# Altium footprint library DIP-SW  0607.PCBlib: 56 footprints (part 2 of 4)
Each footprint in its own frame and in the unit in brackets; x right, y up, seen from the top. Pads: shape width x height; smd on the part's side, far side on the other; paste and mask are expansions set on the pad; w line width, h text height; cw(c..) or ccw(c..) is an arc to the next point about the centre after c.
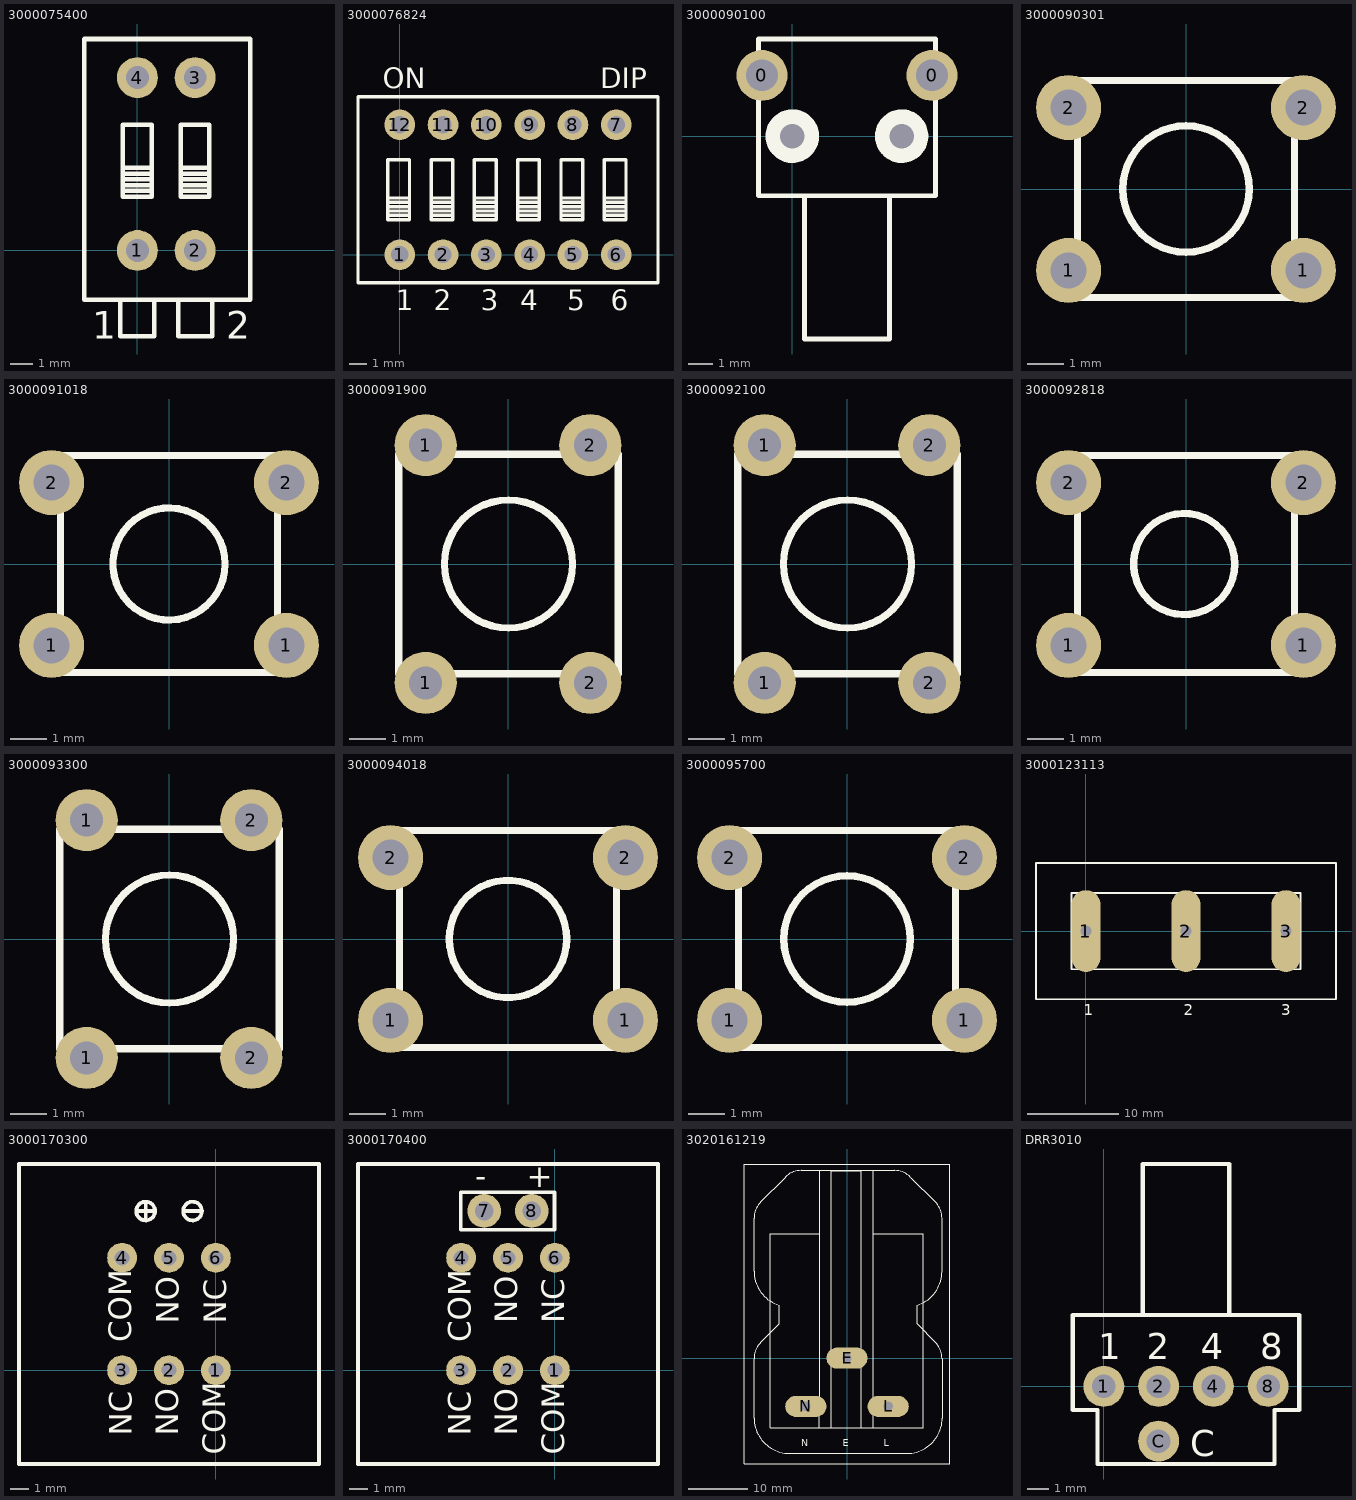
[diagram p1: the footprints below, top view; thin cyan lines are the x and y axes]

## 3000075400 [mm]
height 10.3
pads (4):
  round 1.8 hole 1: 1(0,0) 2(2.54,0) 3(2.54,7.62) 4(0,7.62)
Top Overlay:
  lines w0.2: -2.34,-2.18 4.975,-2.18 ; -2.34,-2.13 -2.34,9.27 ; -2.34,9.32 4.975,9.32 ; -0.75,-2.18 -0.75,-3.78 0.75,-3.78 0.75,-2.18 ; -0.64,3.64 0.63,3.64 ; -0.513,2.624 0.503,2.624 ; -0.513,2.878 0.503,2.878 ; -0.513,3.132 0.503,3.132 ; -0.513,3.386 0.503,3.386 ; 1.79,-2.18 1.79,-3.78 3.29,-3.78 3.29,-2.18 ; 1.9,3.64 3.17,3.64 ; 2.027,2.624 3.043,2.624 ; 2.027,2.878 3.043,2.878 ; 2.027,3.132 3.043,3.132 ; 2.027,3.386 3.043,3.386 ; 4.98,-2.18 4.98,9.32 ; -0.64,2.37 -0.64,5.545 0.63,5.545 0.63,2.37 -0.64,2.37 ; 1.9,2.37 1.9,5.545 3.17,5.545 3.17,2.37 1.9,2.37
  text "2" at 3.92,-3.9 h1.2
  text "1" at -2,-3.9 h1.2
Bottom Overlay:
  lines w0.5: 1.27,-0.8 1.27,0.8 ; 1.27,6.82 1.27,8.42

## 3000076824 [mm] "DS-06-G-01-BL"
height 7.1
pads (12):
  round 1.8 hole 1: 1(0,0) 2(2.54,0) 3(5.08,0) 4(7.62,0) 5(10.16,0) 6(12.7,0) 7(12.7,7.62) 8(10.16,7.62) 9(7.62,7.62) 10(5.08,7.62) 11(2.54,7.62) 12(0,7.62)
Top Overlay:
  lines w0.2: -0.7,2.05 0.57,2.05 ; -0.7,2.06 -0.7,5.56 0.57,5.56 0.57,2.06 ; -0.7,3.32 0.57,3.32 ; -0.573,2.304 0.443,2.304 ; -0.573,2.558 0.443,2.558 ; -0.573,2.812 0.443,2.812 ; -0.573,3.066 0.443,3.066 ; 1.84,2.05 3.11,2.05 ; 1.84,2.06 1.84,5.56 3.11,5.56 3.11,2.06 ; 1.84,3.32 3.11,3.32 ; 1.967,2.304 2.983,2.304 ; 1.967,2.558 2.983,2.558 ; 1.967,2.812 2.983,2.812 ; 1.967,3.066 2.983,3.066 ; 4.38,2.05 5.65,2.05 ; 4.38,2.06 4.38,5.56 5.65,5.56 5.65,2.06 ; 4.38,3.32 5.65,3.32 ; 4.507,2.304 5.523,2.304 ; 4.507,2.558 5.523,2.558 ; 4.507,2.812 5.523,2.812 ; 4.507,3.066 5.523,3.066 ; 6.92,2.05 8.19,2.05 ; 6.92,2.06 6.92,5.56 8.19,5.56 8.19,2.06 ; 6.92,3.32 8.19,3.32 ; 7.047,2.304 8.063,2.304 ; 7.047,2.558 8.063,2.558 ; 7.047,2.812 8.063,2.812 ; 7.047,3.066 8.063,3.066 ; 9.46,2.05 10.73,2.05 ; 9.46,2.06 9.46,5.56 10.73,5.56 10.73,2.06 ; 9.46,3.32 10.73,3.32 ; 9.587,2.304 10.603,2.304 ; 9.587,2.558 10.603,2.558 ; 9.587,2.812 10.603,2.812 ; 9.587,3.066 10.603,3.066 ; 12,2.05 13.27,2.05 ; 12,2.06 12,5.56 13.27,5.56 13.27,2.06 ; 12,3.32 13.27,3.32 ; 12.127,2.304 13.143,2.304 ; 12.127,2.558 13.143,2.558 ; 12.127,2.812 13.143,2.812 ; 12.127,3.066 13.143,3.066 ; -2.45,-1.64 -2.45,9.26 15.15,9.26 15.15,-1.64 -2.45,-1.64
  text "DIP" at 11.75,9.75 h1.2
  text "6" at 12.37,-3.25 h1.2
  text "2" at 2,-3.25 h1.2
  text "3" at 4.75,-3.25 h1.2
  text "1" at -0.25,-3.25 h1.2
  text "4" at 7.08,-3.25 h1.2
  text "5" at 9.83,-3.25 h1.2
  text "ON" at -1,9.75 h1.2
Bottom Overlay:
  lines w0.5: 1.27,-0.8 1.27,0.8 ; 1.27,6.82 1.27,8.42 ; 3.81,-0.8 3.81,0.8 ; 3.81,6.82 3.81,8.42 ; 6.35,-0.8 6.35,0.8 ; 6.35,6.82 6.35,8.42 ; 8.89,-0.8 8.89,0.8 ; 8.89,6.82 8.89,8.42 ; 11.43,-0.8 11.43,0.8 ; 11.43,6.82 11.43,8.42

## 3000090100 [mm]
height 8.1
pads (4):
  round 2.1 hole 1.3: 0(-1.25,2.5) 0(5.75,2.5)
  round 0 / inner round 1.8 / far side round 1.8 hole 1: 1(0,0) 2(4.5,0)
Top Layer:
  circle w1: c4.5,0 r0.5
  circle w1: c0,0 r0.5
Top Overlay:
  circle w1.2: c4.5,0 r0.5
  circle w1.2: c0,0 r0.5
  lines w0.2: 0.5,-2.45 0.5,-8.35 4,-8.35 4,-2.45 ; -1.4,-2.45 -1.4,4 5.9,4 5.9,-2.45 -1.4,-2.45

## 3000090301 [mm]
height 14.8
pads (4):
  round 1.8 hole 1: 1(-3.25,-2.25) 1(3.25,-2.25) 2(-3.25,2.25) 2(3.25,2.25)
Top Overlay:
  circle w0.2: c0,0 r1.75
  lines w0.2: -3,-3 -3,3 3,3 3,-3 -3,-3

## 3000091018 [mm]
height 11.3
pads (4):
  round 1.8 hole 1: 1(-3.25,-2.25) 1(3.25,-2.25) 2(-3.25,2.25) 2(3.25,2.25)
Top Overlay:
  circle w0.2: c0,0 r1.55
  lines w0.2: -3,-3 3,-3 3,3 -3,3 -3,-3

## 3000091900 [mm] "BLACK"
height 11.3
pads (4):
  round 1.7 hole 0.9: 1(-2.25,-3.25) 1(-2.25,3.25) 2(2.25,-3.25) 2(2.25,3.25)
Top Overlay:
  circle w0.2: c0.013,0 r1.75
  lines w0.2: -2.987,-3 3.013,-3 3.013,3 -2.987,3 -2.987,-3

## 3000092100 [mm] "BROWN"
height 6.8
pads (4):
  round 1.7 hole 0.9: 1(-2.25,-3.25) 1(-2.25,3.25) 2(2.25,-3.25) 2(2.25,3.25)
Top Overlay:
  circle w0.2: c0.013,0 r1.75
  lines w0.2: -2.987,-3 3.013,-3 3.013,3 -2.987,3 -2.987,-3

## 3000092818 [mm]
height 18.8
pads (4):
  round 1.8 hole 1: 1(-3.25,-2.25) 1(3.25,-2.25) 2(-3.25,2.25) 2(3.25,2.25)
Top Overlay:
  circle w0.2: c-0.05,0 r1.4
  lines w0.2: -3,-3 3,-3 3,3 -3,3 -3,-3

## 3000093300 [mm] "BLACK"
height 9.1
pads (4):
  round 1.7 hole 0.9: 1(-2.25,-3.25) 1(-2.25,3.25) 2(2.25,-3.25) 2(2.25,3.25)
Top Overlay:
  circle w0.2: c0.013,0 r1.75
  lines w0.2: -2.987,-3 3.013,-3 3.013,3 -2.987,3 -2.987,-3

## 3000094018 [mm]
height 9.1
pads (4):
  round 1.8 hole 1: 1(-3.25,-2.25) 1(3.25,-2.25) 2(-3.25,2.25) 2(3.25,2.25)
Top Overlay:
  circle w0.2: c0,0 r1.625
  lines w0.2: -3,-3 -3,3 3,3 3,-3 -3,-3

## 3000095700 [mm]
height 6.8
pads (4):
  round 1.8 hole 1: 1(-3.25,-2.25) 1(3.25,-2.25) 2(-3.25,2.25) 2(3.25,2.25)
Top Overlay:
  circle w0.2: c0,0 r1.75
  lines w0.2: -3,-3 3,-3 3,3 -3,3 -3,-3

## 3000123113 [mm]
height 27.6
pads (3):
  oval 3.2x9 hole 1.2: 1(0,0) 2(11,0) 3(22,0)
Top Overlay:
  lines w0.2: -5.5,-7.5 -5.5,7.5 27.5,7.5 27.5,-7.5 -5.5,-7.5 ; -1.6,-4.2 -1.6,4.2 23.6,4.2 23.6,-4.2 -1.6,-4.2
  text "3" at 21.5,-9.25 h1.2
  text "2" at 10.75,-9.25 h1.2
  text "1" at -0.25,-9.25 h1.2
Top Solder:
  lines w1.5: 0,-2.9 0,0 0,2.9 ; 11,-2.9 11,0 11,2.9 ; 22,-2.9 22,0 22,2.9
Drill Drawing:
  lines w0.2: -0.6,-2.9 ccw(c0,-2.9) 0.6,-2.9 0.6,2.9 ccw(c0,2.9) -0.6,2.9 -0.6,-2.9 ; 10.4,-2.9 ccw(c11,-2.9) 11.6,-2.9 11.6,2.9 ccw(c11,2.9) 10.4,2.9 10.4,-2.9 ; 21.4,-2.9 ccw(c22,-2.9) 22.6,-2.9 22.6,2.9 ccw(c22,2.9) 21.4,2.9 21.4,-2.9
  text "(1.2X7)*3" at 7.25,-6.75 h1.2

## 3000170300 [mm]
height 14.4
pads (6):
  round 1.6 hole 0.8: 1(0,0) 2(-2.5,0) 3(-5,0) 4(-5,6) 5(-2.5,6) 6(0,6)
Top Overlay:
  circle w0.2: c-1.245,8.49 r0.5
  circle w0.2: c-3.745,8.49 r0.5
  lines w0.2: -4.245,8.49 -3.245,8.49 ; -3.745,7.99 -3.745,8.99 ; -1.745,8.49 -0.745,8.49 ; -10.5,-5 5.5,-5 5.5,11 -10.5,11 -10.5,-5
  text "NC" at 0.548,2.492 h1.2
  text "NO" at -1.992,2.492 h1.2
  text "COM" at -4.5,1.5 h1.2
  text "COM" at 0.5,-4.5 h1.2
  text "NO" at -2,-3.5 h1.2
  text "NC" at -4.5,-3.5 h1.2
Bottom Overlay:
  lines w0.5: -3.75,-0.8 -3.75,0.8 ; -3.75,5.2 -3.75,6.8 ; -1.25,-0.8 -1.25,0.8 ; -1.25,5.2 -1.25,6.8

## 3000170400 [mm]
height 14.4
pads (8):
  round 1.6 hole 0.8: 1(0,0) 2(-2.5,0) 3(-5,0) 4(-5,6) 5(-2.5,6) 6(0,6)
  round 1.8 hole 1: 7(-3.77,8.5) 8(-1.23,8.5)
Top Overlay:
  circle w0.2: c-1.25,8.5 r0.5
  circle w0.2: c-3.75,8.5 r0.5
  lines w0.2: -4.25,8.5 -3.25,8.5 ; -3.75,8 -3.75,9 ; -1.75,8.5 -0.75,8.5 ; -10.5,-5 5.5,-5 5.5,11 -10.5,11 -10.5,-5 ; -5.02,7.5 -0.02,7.5 -0.02,9.5 -5.02,9.5 -5.02,8.5 -5.02,7.5
  text "-" at -4.25,9.75 h1.2
  text "+" at -1.5,9.75 h1.2
  text "NC" at 0.5,2.5 h1.2
  text "NO" at -2,2.5 h1.2
  text "COM" at -4.5,1.5 h1.2
  text "COM" at 0.5,-4.5 h1.2
  text "NO" at -2,-3.5 h1.2
  text "NC" at -4.5,-3.5 h1.2
Bottom Overlay:
  lines w0.5: -3.75,-0.8 -3.75,0.8 ; -3.75,5.2 -3.75,6.8 ; -1.25,-0.8 -1.25,0.8 ; -1.25,5.2 -1.25,6.8

## 3020161219 [mm]
height 2.8
pads (3):
  oval 7x3.6 hole 1.6: E(0,0) L(7,-8.2) N(-7,-8.2)
Top Overlay:
  lines w0.2: -17.5,-18 -17.5,33 17.5,33 17.5,-18 -17.5,-18
  lines w0.203: -11.554,9.001 cw(c-9.8,14.739) -15.8,14.739 -15.8,23.759 cw(c-11.8,23.759) -14.628,26.587 -10.428,30.787 ; -11.55,9 -11.55,5.8 -14.628,2.722 ccw(c-11.8,-0.107) -15.8,-0.107 -15.8,-10.2 ccw(c-9.8,-10.2) -9.8,-16.2 ; -10.487,30.787 cw(c-7.8,28.1) -7.8,31.9 ; -9.825,-16.2 10.175,-16.2 ; -7.766,31.9 8.116,31.9 ; -4.675,-8.575 -4.675,-11.825 ; -4.675,-7.775 -4.675,31.9 ; -4.675,21.175 -13.075,21.175 -13.075,-11.825 -4.675,-11.825 ; 4.425,21.175 12.925,21.175 12.925,-11.825 4.425,-11.825 ; 4.425,31.9 4.425,-11.825 ; 8.1,31.9 cw(c8.1,28.1) 10.787,30.787 14.987,26.587 cw(c12.159,23.759) 16.159,23.759 16.159,14.739 cw(c10.159,14.739) 11.913,9.001 ; 10.2,-16.2 ccw(c10.2,-10.2) 16.2,-10.2 16.159,-0.107 ccw(c12.159,-0.107) 14.987,2.722 11.909,5.8 11.909,9 ; -4.675,-11.825 -2.675,-11.825 ; -2.675,-11.825 -2.675,31.825 2.425,31.825 2.425,-11.825 ; -2.675,-11.825 2.425,-11.825 ; 2.425,-11.825 4.425,-11.825
  text "L" at 6.25,-15 h1.2
  text "N" at -7.75,-15 h1.2
  text "E" at -0.75,-15 h1.2
Top Solder:
  lines w1.9: -8.775,-8.2 -7,-8.2 ; -5.375,-8.2 -7,-8.2 ; -1.775,0 0,0 1.625,0 ; 5.225,-8.2 7,-8.2 8.625,-8.2 ; -7,-8.2 -7,-8.2
Drill Drawing:
  lines w0.203: -8.775,-9 cw(c-8.775,-8.2) -8.775,-7.4 -5.375,-7.4 cw(c-5.375,-8.2) -5.375,-9 -8.775,-9 ; -1.775,-0.8 cw(c-1.775,0) -1.775,0.8 1.625,0.8 cw(c1.625,0) 2.425,0 cw(c1.625,0) 1.625,-0.8 -1.775,-0.8 ; 5.225,-9 cw(c5.225,-8.2) 5.225,-7.4 8.625,-7.4 cw(c8.625,-8.2) 8.625,-9 5.225,-9
  text "5X1.6" at -9.25,-11.75 h1.2
  text "5X1.6" at -2,-3.5 h1.2
  text "5X1.6" at 5.25,-11.75 h1.2

## DRR3010 [mm]
height 10.9
pads (5):
  round 1.9 hole 1.1: 1(0,0) 2(2.54,0) 4(5.08,0) 8(7.62,0) C(2.54,-2.54)
Top Overlay:
  lines w0.2: 1.81,3.3 1.81,10.3 5.81,10.3 5.81,3.3 ; 9.05,-1.1 7.91,-1.1 7.91,-3.6 -0.29,-3.6 -0.29,-1.1 -1.44,-1.1 -1.44,3.3 9.06,3.3 9.06,-1.1
  text "1" at -0.25,1.25 h1.2
  text "2" at 2,1.25 h1.2
  text "4" at 4.5,1.25 h1.2
  text "8" at 7.25,1.25 h1.2
  text "C" at 4,-3.25 h1.2
Bottom Overlay:
  lines w0.4: 1.27,-0.8 1.27,0.8 ; 1.74,-1.27 3.34,-1.27 ; 3.81,-0.8 3.81,0.8 ; 6.35,-0.8 6.35,0.8